# Altium footprint library D1.PcbLib: 36 footprints (part 3 of 3)
Each footprint in its own frame and in the unit in brackets; x right, y up, seen from the top. Pads: shape width x height; smd on the part's side, far side on the other; paste and mask are expansions set on the pad; w line width, h text height; cw(c..) or ccw(c..) is an arc to the next point about the centre after c.
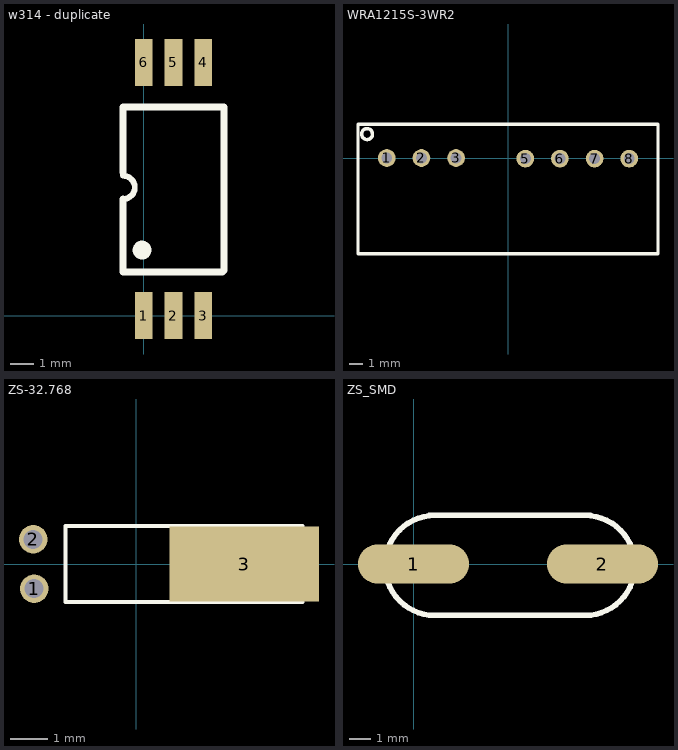
[diagram p2: the footprints below, top view; thin cyan lines are the x and y axes]

## w314 - duplicate [mm]
pads (6):
  rect 0.76x2 smd: 1(0,0) 2(1.27,0) 3(2.54,0) 4(2.54,10.8) 5(1.27,10.8) 6(0,10.8)
Top Overlay:
  circle w0.4: c-0.073,2.794 r0.2
  lines w0.254: -0.89,1.85 -0.889,4.52 ; -0.889,4.969 ccw(c-0.881,5.469) -0.889,5.969 ; -0.889,6.096 -0.889,8.89 3.429,8.89
  lines w0.3: -0.889,3.811 -0.889,4.52 ; -0.889,4.969 -0.889,4.064 -0.89,4.063 -0.89,1.85 3.357,1.85 ; -0.889,6.096 -0.889,7.942 ; -0.889,6.783 -0.889,7.942 ; -0.889,7.239 -0.889,7.942 ; -0.889,7.747 -0.889,8.89 3.429,8.89 3.429,1.922

## WRA1215S-3WR2 [mm] "WRA1215S-3WR2"
pads (7):
  round 1.3 hole 0.8: 1(-8.89,0.025) 2(-6.35,0.025) 3(-3.81,0.025) 5(1.27,-0.025) 6(3.81,-0.025) 7(6.35,-0.025) 8(8.89,-0.025)
Top Overlay:
  circle w0.254: c-10.338,1.778 r0.402
  lines w0.254: -11,-7 11,-7 11,2.5 -11,2.5 -11,-7

## ZS-32.768 [mil]
pads (3):
  round 30 hole 20: 1(-107.67,-26) 2(-108.67,26)
  rect 157.48x78.74 smd: 3(114,0)
Top Overlay:
  lines w4: -74.67,-40 175.33,-40 175.33,40 -74.67,40 -74.67,-40

## ZS_SMD [mil]
height 62.99
pads (2):
  oval 200x70 smd: 1(0,0) 2(340,0)
Top Overlay:
  lines w10: 28.5,-92.5 318.5,-92.5 308.5,-92.5 ccw(c308.5,-2.5) 308.5,87.5 318.5,87.5 28.5,87.5 38.5,87.5 ccw(c38.5,-2.5) 38.5,-92.5 28.5,-92.5